# Altium integrated library Analog Devices Clock Generation and Distribution.IntLib: 120 symbols (part 12 of 18)
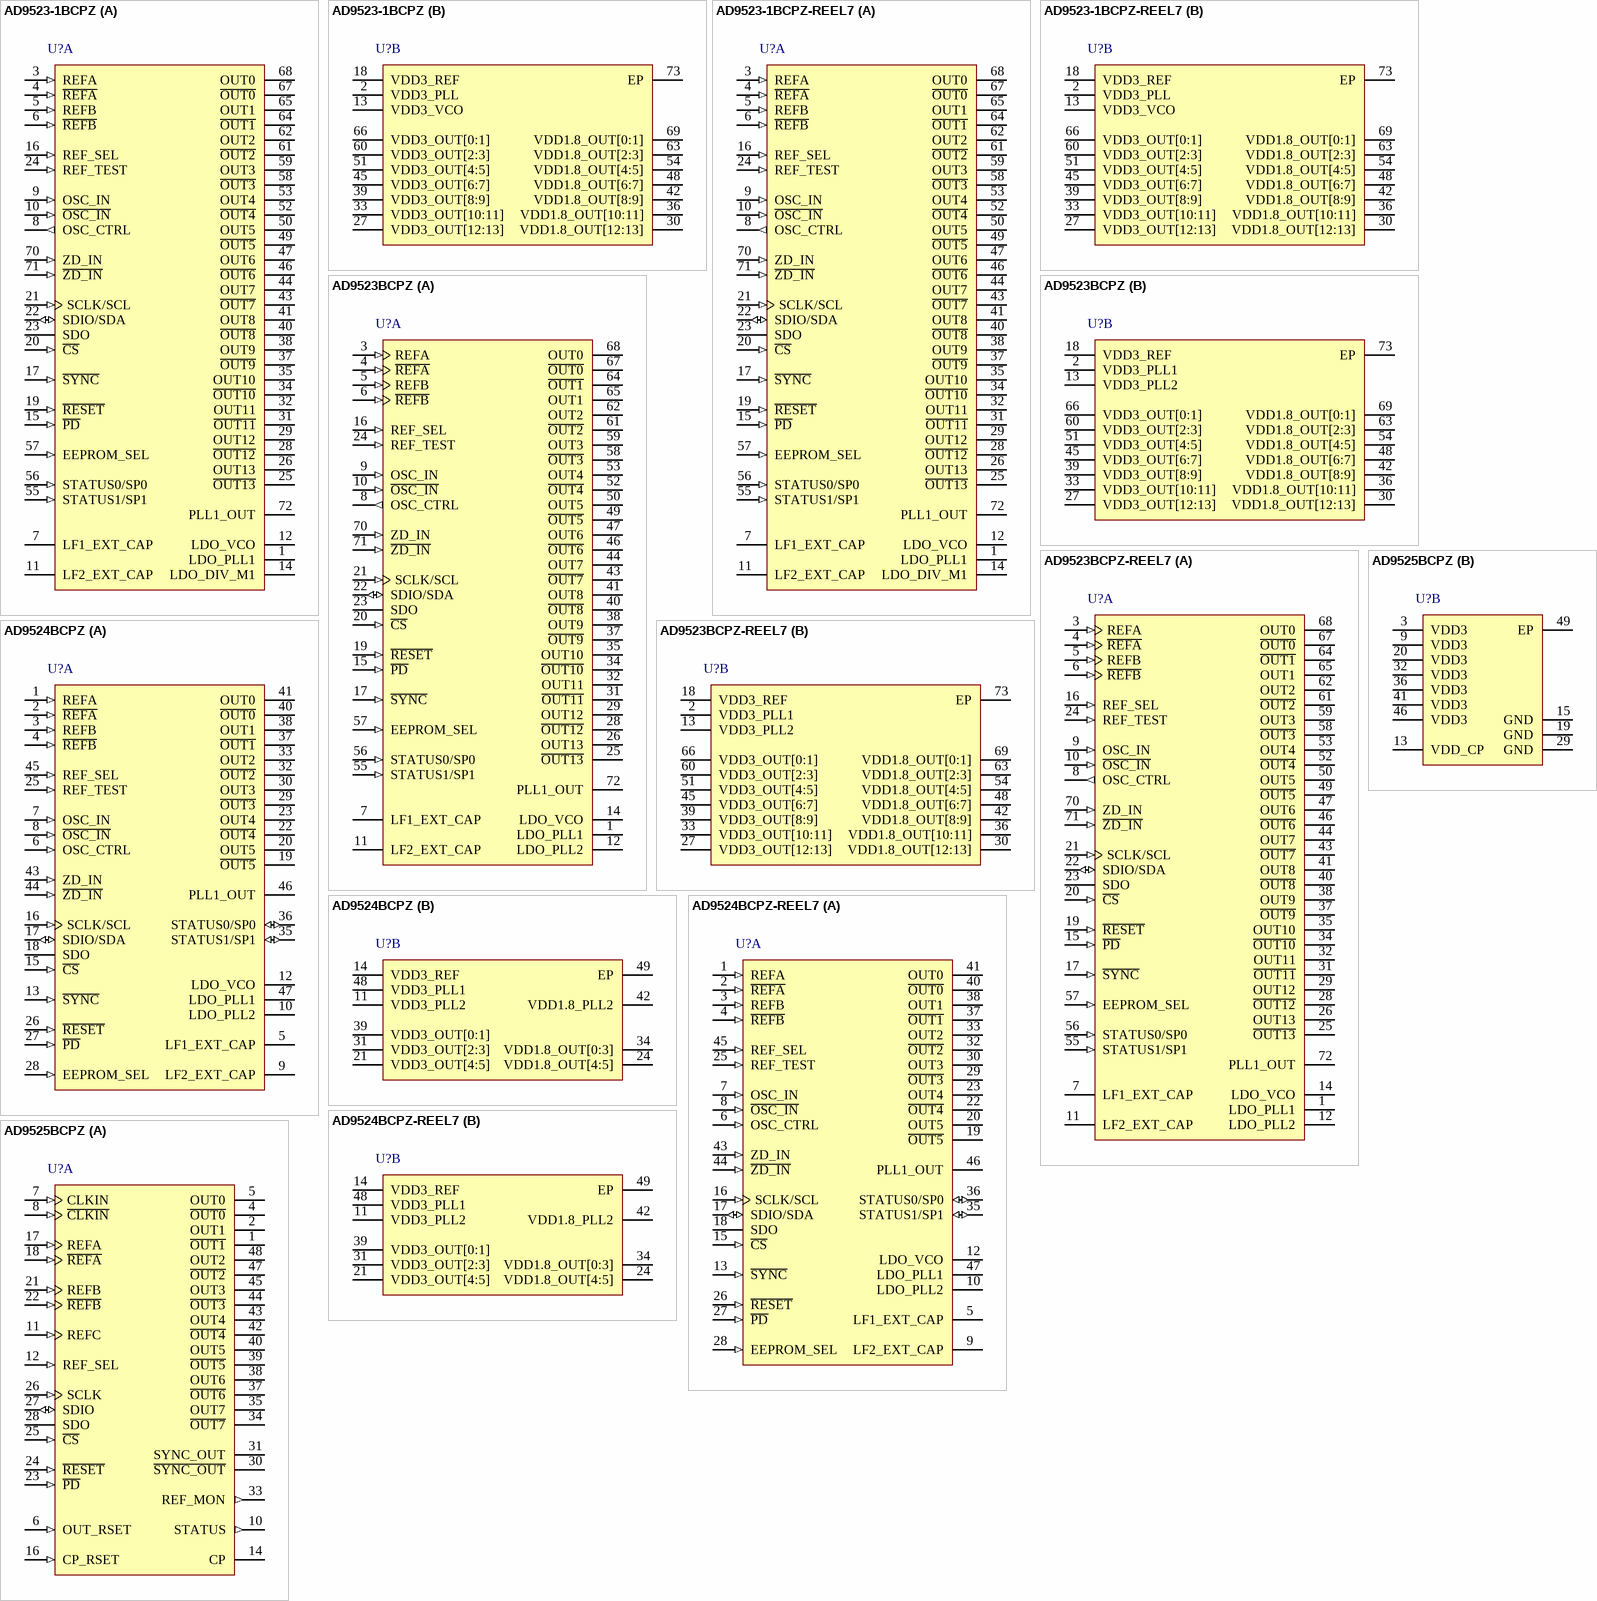
[diagram p23: symbols AD9523-1BCPZ to AD9525BCPZ]

## AD9524BCPZ-REEL7
designator U?
6 Differential / 13 LVCMOS Outputs, Dual Loop Clock Generator, 3.3 V Supply, Industrial, 48-pin QFN (CP-48-1), Reel; Manufacturer: Analog Devices; PartNumber: AD9524BCPZ-REEL7; # of Inputs: 1; # of Outputs: 13; Supply Voltage (V): 3.3; I/O Interface: Serial; Max f-out: 1 GHz; On-Chip VCO or DCO: Yes; Output Logic: LVCMOS, HSTL, LVDS, LVPECL; DatasheetVersion: Rev. C; PackageReference: CP-48-1; PackageDescription: 48-Pin Lead Frame Chip Scale Package, Body 7 x 7 mm, Pitch 0.5 mm; Supplier 1: Digi-Key; Supplier Part Number 1: AD9524BCPZ-REEL7TR-ND; Supplier 2: Digi-Key; Supplier Part Number 2: AD9524BCPZ-REEL7CT-ND; Supplier 3: Digi-Key; Supplier Part Number 3: AD9524BCPZ-REEL7DKR-ND; Supplier 4: Newark; Supplier Part Number 4: 79R2356; Supplier 5: Mouser; Supplier Part Number 5: 584-AD9524BCPZ-R7; Packing: Reel; Mounting Technology: Surface Mount; Code_JEDEC: MO-220-VKKD-2; ComponentLink1Description: Manufacturer URL; ComponentLink1URL: http://www.analog.com/en/index.html; ComponentLink2Description: Datasheet; ComponentLink2URL: http://www.analog.com/static/imported-files/data_sheets/AD9524.pdf; ComponentLink3Description: Package Specification; ComponentLink3URL: http:/www.analog.com/static/imported-files/packages/PKG_PDF/LFCSP(CP)/CP-48/CP_48_1.pdf; ComponentLink4Description: Product URL; ComponentLink4URL: http://www.analog.com/en/clock-and-timing/clock-generation-and-distribution/ad9524/products/product.html
footprint ADI-CP-48-1_N (QFN, 48-Leads, Body 7x7mm, Pitch 0.5mm, IPC Medium Density)
footprint ADI-CP-48-1_L (QFN, 48-Leads, Body 7x7mm, Pitch 0.5mm, IPC High Density)
footprint ADI-CP-48-1_M (QFN, 48-Leads, Body 7x7mm, Pitch 0.5mm, IPC Low Density)
part A pins: 1 REFA (in) "Reference Clock Input A. Along with R\E\F\A\, this pin is the differential input for the PLL reference. Alternatively, this pin can be programmed as a single-ended 3.3 V CMOS input.", 2 ~{REFA} (in) "Complementary Reference Clock Input A. Along with REFA, this pin is the differential input for the PLL reference. Alternatively, this pin can be programmed as a single-ended 3.3V CMOS input.", 3 REFB (in) "Reference Clock Input B. Along with R\E\F\B\,this pin is the differential input for the PLL reference. Alternatively, this pin can be programmed as a single-ended 3.3 V CMOS input.", 4 ~{REFB} (in) "Complementary Reference Clock Input B. Along with REFB, this pin is the differential input for the PLL reference. Alternatively, this pin can be programmed as a single-ended 3.3 V CMOS input.", 5 LF1_EXT_CAP "PLL1 External Loop Filter Capacitor. Connect this pin to ground.", 6 OSC_CTRL (in) "Oscillator Control Voltage. Connect to the voltage control pin of the external oscillator.", 7 OSC_IN (in) "PLL1 Oscillator Input. Along with O\S\C\_\I\N\, this pin is the differential input for the PLL reference. Alternatively, this pin can be programmed as a single-ended 3.3 V CMOS input.", 8 ~{OSC_IN} (in) "Complementary PLL1 Oscillator Input. Along with OSC_IN, this pin is the differential input for the PLL reference. Alternatively, this pin can be programmed as a single-ended 3.3 V CMOS input.", 9 LF2_EXT_CAP "PLL2 External Loop Filter Capacitor. Connect this pin to the LDO_VCO pin.", 10 LDO_PLL2 "LDO Decoupling Pin for PLL2 1.8 V Internal Regulator. Connect a 0.47 uF decoupling capacitor from this pin to ground. Note that for best performance, the LDO bypass capacitor must be placed in close proximity to the device.", 12 LDO_VCO "2.5 V LDO Internal Regulator Decoupling Pin for VCO. Connect a 0.47 uF decoupling capacitor from this pin to ground. Note that, for best performance, the LDO bypass capacitor must be placed in close proximity to the device.", 13 ~{SYNC} (in) "Manual Synchronization. This pin initiates a manual synchronization and has an internal 40 k ohm pull-up resistor", 15 ~{CS} (in) "Serial Control Port Chip Select, Active Low. This pin has an internal 40 k ohm pull-up resistor.", 16 SCLK/SCL (in) "Serial Control Port Clock Signal for SPI Mode (SCLK) or I2C Mode (SCL). Data clock for serial programming. This pin has an internal 40 k ohm pull-down resistor in SPI mode but is high impedance in I2C mode.", 17 SDIO/SDA (io) "Serial Control Port Bidirectional Serial Data In/Out for SPI Mode (SDIO) or I2C Mode (SDA).", 18 SDO (hiz) "Serial Data Output. Use this pin to read data in 4-wire mode (high impedance in 3-wire mode). There is no internal pull-up/pull-down resistor on this pin.", 19 ~{OUT5} (hiz) "Complementary Clock Output 5. This pin can be configured as one side of a differential LVPECL/ LVDS/HSTL output or as a single-ended CMOS output.", 20 OUT5 (hiz) "Clock Output 5. This pin can be configured as one side of a differential LVPECL/LVDS/HSTL output or as a single-ended CMOS output.", 22 ~{OUT4} (hiz) "Complementary Clock Output 4. This pin can be configured as one side of a differential LVPECL/ LVDS/HSTL output or as a single-ended CMOS output.", 23 OUT4 (hiz) "Clock Output 4. This pin can be configured as one side of a differential LVPECL/LVDS/HSTL output or as a single-ended CMOS output.", 25 REF_TEST (in) "Test Input to PLL1 Phase Detector.", 26 ~{RESET} (in) "Digital Input, Active Low. Resets internal logic to default states. This pin has an internal 40 k ohm pull-up resistor.", 27 ~{PD} (in) "Chip Power-Down, Active Low. This pin has an internal 40 k ohm pull-up resistor.", 28 EEPROM_SEL (in) "EEPROM Select. Setting this pin high selects the register values stored in the internal EEPROM to be loaded at reset and/or power-up. Setting this pin low causes the AD9524 to load the hard- coded default register values at (See Datasheet)", 29 ~{OUT3} (hiz) "Complementary Clock Output 3. This pin can be configured as one side of a differential LVPECL/ LVDS/HSTL output or as a single-ended CMOS output.", 30 OUT3 (hiz) "Square Wave Clocking Output 3. This pin can be configured as one side of a differential LVPECL/ LVDS/HSTL output or as a single-ended CMOS output.", 32 ~{OUT2} (hiz) "Complementary Clock Output 2. This pin can be configured as one side of a differential LVPECL/ LVDS/HSTL output or as a single-ended CMOS output.", 33 OUT2 (hiz) "Clock Output 2. This pin can be configured as one side of a differential LVPECL/LVDS/HSTL output or as a single-ended CMOS output.", 35 STATUS1/SP1 (io) "Lock Detect and Other Status Signals (STATUS1)/I2C Address (SP1).", 36 STATUS0/SP0 (io) "Lock Detect and Other Status Signals (STATUS0)/I2C Address (SP0).", 37 ~{OUT1} (hiz) "Complementary Clock Output 1. This pin can be configured as one side of a differential LVPECL/ LVDS/HSTL output or as a single-ended CMOS output.", 38 OUT1 (hiz) "Clock Output 1. This pin can be configured as one side of a differential LVPECL/LVDS/HSTL output or as a single-ended CMOS output.", 40 ~{OUT0} (hiz) "Complementary Clock Output 0. This pin can be configured as one side of a differential LVPECL/ LVDS/HSTL output or as a single-ended CMOS output.", 41 OUT0 (hiz) "Clock Output 0. This pin can be configured as one side of a differential LVPECL/LVDS/HSTL output or as a single-ended CMOS output.", 43 ZD_IN (in) "External Zero Delay Clock Input. Along with Z\D\_\I\N\, this pin is the differential input for the PLL reference. Alternatively, this pin can be programmed as a single-ended 3.3 V CMOS input.", 44 ~{ZD_IN} (in) "Complementary External Zero Delay Clock Input. Along with ZD_IN, this pin is the differential input for the PLL reference. Alternatively, this pin can be programmed as a single-ended 3.3 V CMOS input.", 45 REF_SEL (in) "Reference Input Select. This pin has an internal 40 k ohm pull-down resistor.", 46 PLL1_OUT (hiz) "Single-Ended CMOS Output from PLL1. This pin has settings for weak and strong in Register 0x1BA, Bit 4 (see Table 51).", 47 LDO_PLL1 "1.8 V Internal LDO Regulator Decoupling Pin for PLL1. Connect a 0.47 uF decoupling capacitor from this pin to ground. Note that, for best performance, the LDO bypass capacitor must be placed in close proximity to the device."
part B pins: 11 VDD3_PLL2 (power) "3.3 V Supply for PLL2.", 14 VDD3_REF (power) "3.3 V Supply for Output Clock Drivers Reference.", 21 VDD3_OUT[4:5] (power) "3.3 V Supply for Output 4 and Output 5 Clock Drivers.", 24 VDD1.8_OUT[4:5] (power) "1.8 V Supply for Output 4 and Output 5 Clock Dividers.", 31 VDD3_OUT[2:3] (power) "3.3 V Supply Output 2 and Supply Output 3 Clock Drivers.", 34 VDD1.8_OUT[0:3] (power) "1.8 V Supply for Output 0, Output 1, Output 2, and Output 3 Clock Dividers.", 39 VDD3_OUT[0:1] (power) "3.3 V Supply Output 0 and Supply Output 1 Clock Drivers.", 42 VDD1.8_PLL2 (power) "1.8 V Supply for PLL2.", 48 VDD3_PLL1 (power) "3.3 V Supply PLL1. Use the same supply as VCXO.", 49 EP (power) "Exposed Paddle. The exposed paddle is the ground connection on the chip. It must be soldered to the analog ground of the PCB to ensure proper functionality and heat dissipation, noise, and mechanical strength benefits."

## AD9525BCPZ
designator U?
8 LVPECL Outputs, Low Jitter Clock Generator, 3.3 V Supply, Industrial, 48-pin QFN (CP-48-4), Tray; Manufacturer: Analog Devices; PartNumber: AD9525BCPZ; # of Inputs: 2; # of Outputs: 8; Supply Voltage (V): 3.3; I/O Interface: Serial; Max f-out: 3.6 GHz; Output Logic: CMOS, LVPECL; DatasheetVersion: Rev. 0; PackageVersion: 031808-A, 03/2008; PackageReference: CP-48-4; PackageDescription: 48-Pin Lead Frame Chip Scale Package, Body 7 x 7 mm, Pitch 0.5 mm; Supplier 1: Digi-Key; Supplier Part Number 1: AD9525BCPZ-ND; Supplier 2: Farnell; Supplier Part Number 2: 2254973; Supplier 3: Newark; Supplier Part Number 3: 47W4459; Supplier 4: Mouser; Supplier Part Number 4: 584-AD9525BCPZ; Packing: Tray; Mounting Technology: Surface Mount; ComponentLink1Description: Manufacturer URL; ComponentLink1URL: http://www.analog.com/en/index.html; ComponentLink2Description: Datasheet; ComponentLink2URL: http://www.analog.com/static/imported-files/data_sheets/AD9525.pdf; ComponentLink3Description: Package Specification; ComponentLink3URL: http:/www.analog.com/static/imported-files/packages/PKG_PDF/LFCSP(CP)/CP_48_4.pdf; ComponentLink4Description: Product URL; ComponentLink4URL: http://www.analog.com/en/clock-and-timing/clock-generation-and-distribution/ad9525/products/product.html
footprint ADI-CP-48-4_N (QFN, 48-Leads, Body 7x7mm, Pitch 0.5mm, Thermal Pad 5.1x5.1mm, IPC Medium Density)
footprint ADI-CP-48-4_L (QFN, 48-Leads, Body 7x7mm, Pitch 0.5mm, Thermal Pad 5.1x5.1mm, IPC High Density)
footprint ADI-CP-48-4_M (QFN, 48-Leads, Body 7x7mm, Pitch 0.5mm, Thermal Pad 5.1x5.1mm, IPC Low Density)
part A pins: 1 ~{OUT1} (hiz) "LVPECL Complementary Output 1.", 2 OUT1 (hiz) "LVPECL Output 1.", 4 ~{OUT0} (hiz) "LVPECL Complementary Output 0.", 5 OUT0 (hiz) "LVPECL Output 0.", 6 OUT_RSET (in) "Clock Distribution Current Set Resistor. Connect a 4.12 k ohm resistor from this pin to GND.", 7 CLKIN (in) "Along with C\L\K\I\N\, this pin is the differential input for the clock distribution section.", 8 ~{CLKIN} (in) "Along with CLKIN, this pin is the differential input for the clock distribution section. If a single-ended input is connected to the CLKIN pin, connect a 0.1 uF bypass capacitor from C\L\K\I\N\ to ground.", 10 STATUS (out) "Lock Detect and Other Status Signals.", 11 REFC (in) "Reference Clock Input C. This pin is a CMOS input for the PLL reference.", 12 REF_SEL (in) "Reference Input Select. Logic high = REFB. No internal pull-up or pull-down resistor on this pin.", 14 CP (hiz) "Charge Pump (Output). This pin connects to an external loop filter. This pin can be left unconnected if the PLL is not used.", 16 CP_RSET (in) "Charge Pump Current Set Resistor. Connect a 5.1 k ohm resistor from this pin to GND. This resistor can be omitted if the PLL is not used.", 17 REFA (in) "Reference Clock Input A. Along with R\E\F\A\, this pin is the differential input for the PLL reference.", 18 ~{REFA} (in) "Reference Clock Input A. Along with REFA, this pin is the differential input for the PLL reference.", 21 REFB (in) "Reference Clock Input B. Along with R\E\F\B\, this pin is the differential input for the PLL reference.", 22 ~{REFB} (in) "Reference Clock Input B. Along with REFB, this pin is the differential input for the PLL reference.", 23 ~{PD} (in) "Chip Power-Down, Active Low. This pin has an internal 30 k ohm pull-up resistor.", 24 ~{RESET} (in) "Chip Reset, Active Low. This pin has an internal 30 k ohm pull-up resistor.", 25 ~{CS} (in) "Serial Control Port Chip Select; Active Low. This pin has an internal 30 k ohm pull-up resistor.", 26 SCLK (in) "Serial Control Port Clock Signal. This pin has an internal 30 k ohm pull-down resistor.", 27 SDIO (io) "Serial Control Port Bidirectional Serial Data In/Out.", 28 SDO (hiz) "Serial Control Port Unidirectional Serial Data Out.", 30 ~{SYNC_OUT} (hiz) "LVPECL Complementary Output for Programmable Sync Signal.", 31 SYNC_OUT (hiz) "LVPECL Output for Programmable Sync Signal.", 33 REF_MON (out) "Reference Monitor (Output). This pin has multiple selectable outputs.", 34 ~{OUT7} (hiz) "LVPECL Complementary Output 7.", 35 OUT7 (hiz) "LVPECL Output 7.", 37 ~{OUT6} (hiz) "LVPECL Complementary Output 6.", 38 OUT6 (hiz) "LVPECL Output 6.", 39 ~{OUT5} (hiz) "LVPECL Complementary Output 5.", 40 OUT5 (hiz) "LVPECL Output 5.", 42 ~{OUT4} (hiz) "LVPECL Complementary Output 4.", 43 OUT4 (hiz) "LVPECL Output 4.", 44 ~{OUT3} (hiz) "LVPECL Complementary Output 3.", 45 OUT3 (hiz) "LVPECL Output 3.", 47 ~{OUT2} (hiz) "LVPECL Complementary Output 2.", 48 OUT2 (hiz) "LVPECL Output 2."
part B pins: 3 VDD3 (power) "3.3 V Power Supply for Channel OUT0 and Channel OUT1.", 9 VDD3 (power) "3.3 V Power Supply for CLK Inputs, M Divider, and Output Distribution.", 13 VDD_CP (power) "Power Supply for Charge Pump (CP). VDD3 < VDD_CP < 5.0 V. VDD_CP must still be connected to 3.3 V if the PLL is not used.", 15 GND (power) "Ground for Charge Pump VDD_CP Supply. Connect to ground.", 19 GND (power) "Ground for PLL Power Supply. Connect to ground.", 20 VDD3 (power) "3.3 V Power Supply for PLL.", 29 GND (power) "Connect to ground.", 32 VDD3 (power) "Power Supply for SYNC_OUT Driver.", 36 VDD3 (power) "3.3 V Power Supply for Channel OUT6 and Channel OUT7.", 41 VDD3 (power) "3.3 V Power Supply for Channel OUT4 and Channel OUT5.", 46 VDD3 (power) "3.3 V Power Supply for Channel OUT2 and Channel OUT3.", 49 EP (power) "Exposed Paddle. The exposed pad is a ground connection on the chip that must be soldered to the analog ground of the PCB to ensure proper functionality and heat dissipation, noise, and mechanical strength benefits."

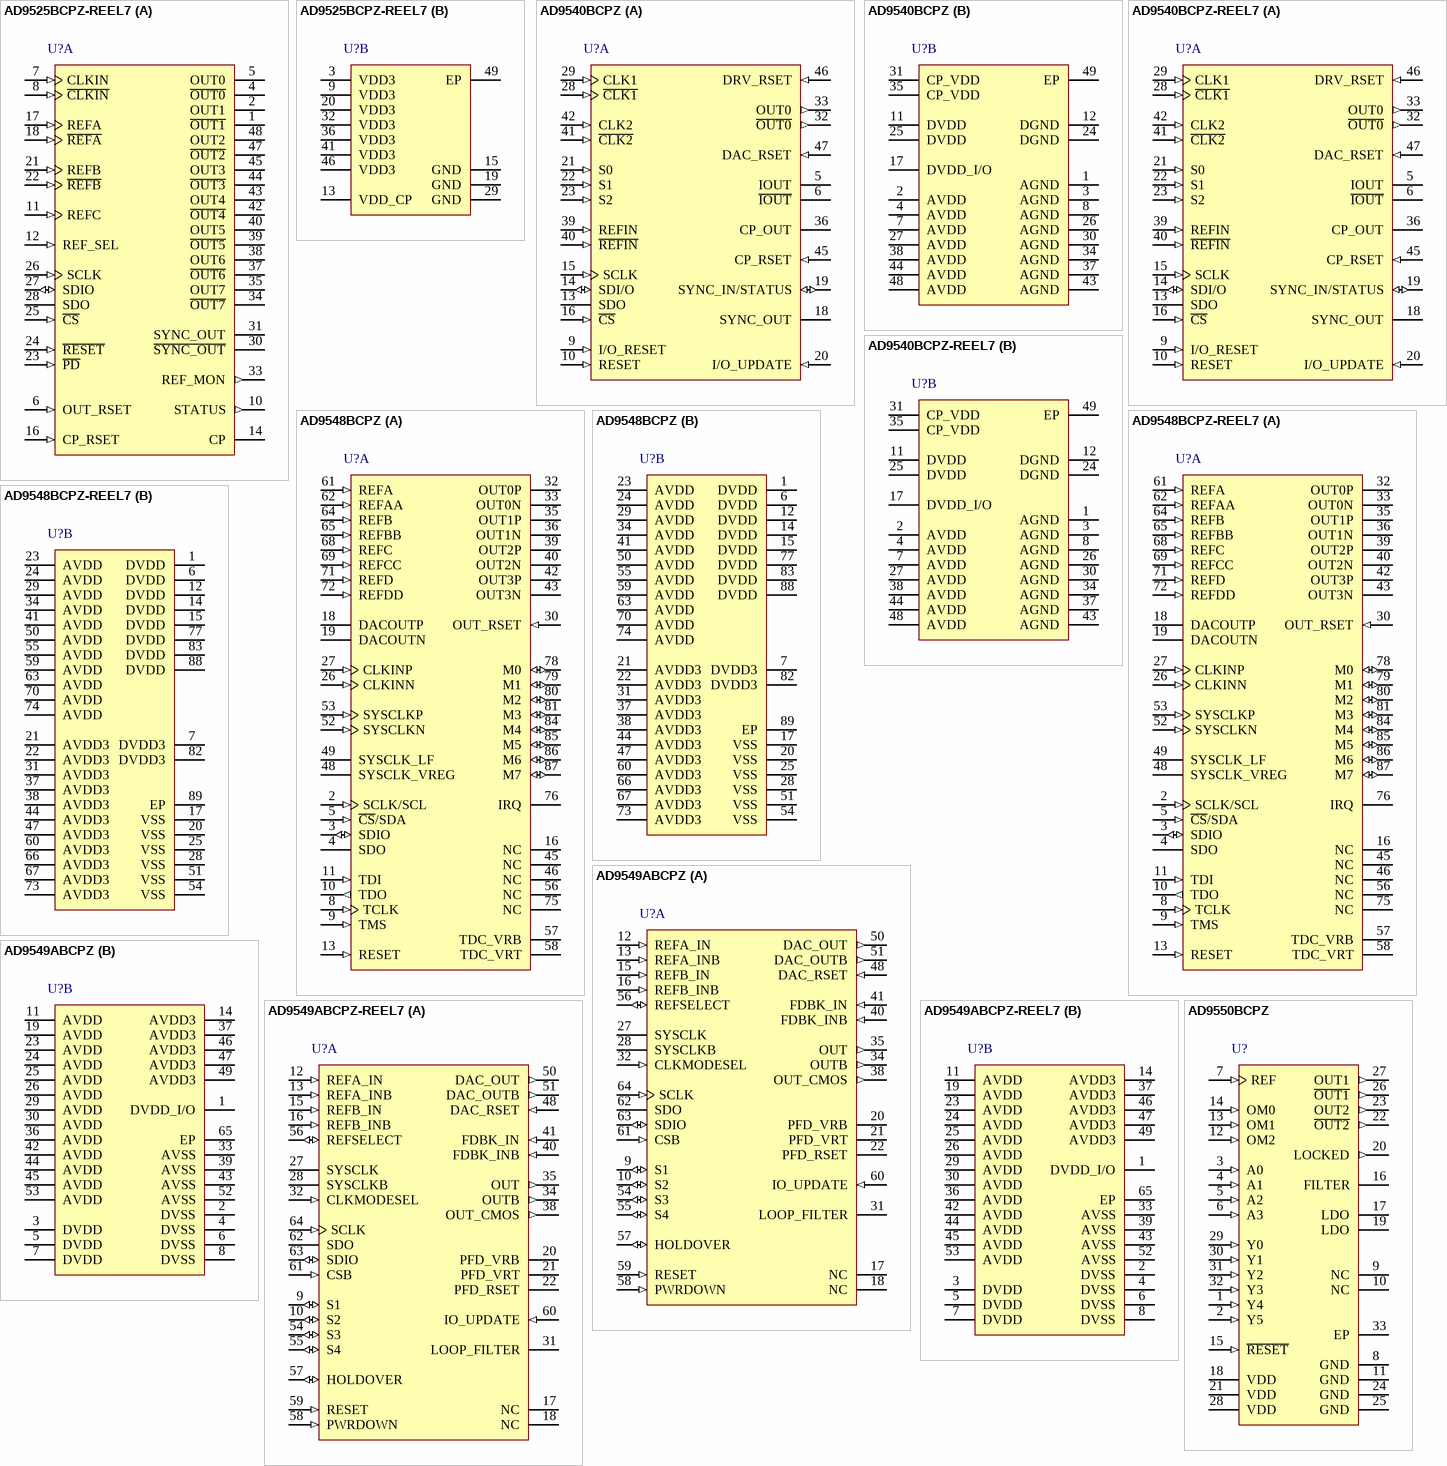
[diagram p8: symbols AD9525BCPZ-REEL7 to AD9550BCPZ]

## AD9525BCPZ-REEL7
designator U?
8 LVPECL Outputs, Low Jitter Clock Generator, 3.3 V Supply, Industrial, 48-pin QFN (CP-48-4), Reel; Manufacturer: Analog Devices; PartNumber: AD9525BCPZ-REEL7; # of Inputs: 2; # of Outputs: 8; Supply Voltage (V): 3.3; I/O Interface: Serial; Max f-out: 3.6 GHz; Output Logic: CMOS, LVPECL; DatasheetVersion: Rev. 0; PackageVersion: 031808-A, 03/2008; PackageReference: CP-48-4; PackageDescription: 48-Pin Lead Frame Chip Scale Package, Body 7 x 7 mm, Pitch 0.5 mm; Supplier 1: Digi-Key; Supplier Part Number 1: AD9525BCPZ-REEL7-ND; Supplier 2: Mouser; Supplier Part Number 2: 584-AD9525BCPZ-R7; Packing: Reel; Mounting Technology: Surface Mount; ComponentLink1Description: Manufacturer URL; ComponentLink1URL: http://www.analog.com/en/index.html; ComponentLink2Description: Datasheet; ComponentLink2URL: http://www.analog.com/static/imported-files/data_sheets/AD9525.pdf; ComponentLink3Description: Package Specification; ComponentLink3URL: http:/www.analog.com/static/imported-files/packages/PKG_PDF/LFCSP(CP)/CP_48_4.pdf; ComponentLink4Description: Product URL; ComponentLink4URL: http://www.analog.com/en/clock-and-timing/clock-generation-and-distribution/ad9525/products/product.html
footprint ADI-CP-48-4_N (QFN, 48-Leads, Body 7x7mm, Pitch 0.5mm, Thermal Pad 5.1x5.1mm, IPC Medium Density)
footprint ADI-CP-48-4_L (QFN, 48-Leads, Body 7x7mm, Pitch 0.5mm, Thermal Pad 5.1x5.1mm, IPC High Density)
footprint ADI-CP-48-4_M (QFN, 48-Leads, Body 7x7mm, Pitch 0.5mm, Thermal Pad 5.1x5.1mm, IPC Low Density)
part A pins: 1 ~{OUT1} (hiz) "LVPECL Complementary Output 1.", 2 OUT1 (hiz) "LVPECL Output 1.", 4 ~{OUT0} (hiz) "LVPECL Complementary Output 0.", 5 OUT0 (hiz) "LVPECL Output 0.", 6 OUT_RSET (in) "Clock Distribution Current Set Resistor. Connect a 4.12 k ohm resistor from this pin to GND.", 7 CLKIN (in) "Along with C\L\K\I\N\, this pin is the differential input for the clock distribution section.", 8 ~{CLKIN} (in) "Along with CLKIN, this pin is the differential input for the clock distribution section. If a single-ended input is connected to the CLKIN pin, connect a 0.1 uF bypass capacitor from C\L\K\I\N\ to ground.", 10 STATUS (out) "Lock Detect and Other Status Signals.", 11 REFC (in) "Reference Clock Input C. This pin is a CMOS input for the PLL reference.", 12 REF_SEL (in) "Reference Input Select. Logic high = REFB. No internal pull-up or pull-down resistor on this pin.", 14 CP (hiz) "Charge Pump (Output). This pin connects to an external loop filter. This pin can be left unconnected if the PLL is not used.", 16 CP_RSET (in) "Charge Pump Current Set Resistor. Connect a 5.1 k ohm resistor from this pin to GND. This resistor can be omitted if the PLL is not used.", 17 REFA (in) "Reference Clock Input A. Along with R\E\F\A\, this pin is the differential input for the PLL reference.", 18 ~{REFA} (in) "Reference Clock Input A. Along with REFA, this pin is the differential input for the PLL reference.", 21 REFB (in) "Reference Clock Input B. Along with R\E\F\B\, this pin is the differential input for the PLL reference.", 22 ~{REFB} (in) "Reference Clock Input B. Along with REFB, this pin is the differential input for the PLL reference.", 23 ~{PD} (in) "Chip Power-Down, Active Low. This pin has an internal 30 k ohm pull-up resistor.", 24 ~{RESET} (in) "Chip Reset, Active Low. This pin has an internal 30 k ohm pull-up resistor.", 25 ~{CS} (in) "Serial Control Port Chip Select; Active Low. This pin has an internal 30 k ohm pull-up resistor.", 26 SCLK (in) "Serial Control Port Clock Signal. This pin has an internal 30 k ohm pull-down resistor.", 27 SDIO (io) "Serial Control Port Bidirectional Serial Data In/Out.", 28 SDO (hiz) "Serial Control Port Unidirectional Serial Data Out.", 30 ~{SYNC_OUT} (hiz) "LVPECL Complementary Output for Programmable Sync Signal.", 31 SYNC_OUT (hiz) "LVPECL Output for Programmable Sync Signal.", 33 REF_MON (out) "Reference Monitor (Output). This pin has multiple selectable outputs.", 34 ~{OUT7} (hiz) "LVPECL Complementary Output 7.", 35 OUT7 (hiz) "LVPECL Output 7.", 37 ~{OUT6} (hiz) "LVPECL Complementary Output 6.", 38 OUT6 (hiz) "LVPECL Output 6.", 39 ~{OUT5} (hiz) "LVPECL Complementary Output 5.", 40 OUT5 (hiz) "LVPECL Output 5.", 42 ~{OUT4} (hiz) "LVPECL Complementary Output 4.", 43 OUT4 (hiz) "LVPECL Output 4.", 44 ~{OUT3} (hiz) "LVPECL Complementary Output 3.", 45 OUT3 (hiz) "LVPECL Output 3.", 47 ~{OUT2} (hiz) "LVPECL Complementary Output 2.", 48 OUT2 (hiz) "LVPECL Output 2."
part B pins: 3 VDD3 (power) "3.3 V Power Supply for Channel OUT0 and Channel OUT1.", 9 VDD3 (power) "3.3 V Power Supply for CLK Inputs, M Divider, and Output Distribution.", 13 VDD_CP (power) "Power Supply for Charge Pump (CP). VDD3 < VDD_CP < 5.0 V. VDD_CP must still be connected to 3.3 V if the PLL is not used.", 15 GND (power) "Ground for Charge Pump VDD_CP Supply. Connect to ground.", 19 GND (power) "Ground for PLL Power Supply. Connect to ground.", 20 VDD3 (power) "3.3 V Power Supply for PLL.", 29 GND (power) "Connect to ground.", 32 VDD3 (power) "Power Supply for SYNC_OUT Driver.", 36 VDD3 (power) "3.3 V Power Supply for Channel OUT6 and Channel OUT7.", 41 VDD3 (power) "3.3 V Power Supply for Channel OUT4 and Channel OUT5.", 46 VDD3 (power) "3.3 V Power Supply for Channel OUT2 and Channel OUT3.", 49 EP (power) "Exposed Paddle. The exposed pad is a ground connection on the chip that must be soldered to the analog ground of the PCB to ensure proper functionality and heat dissipation, noise, and mechanical strength benefits."

## AD9540BCPZ
designator U?
Low Jitter, DDS-based Clock Generator and Synthesizer, 3.3 V Supply, Industrial, 48-pin QFN (CP-48-1), Tray; Manufacturer: Analog Devices; PartNumber: AD9540BCPZ; # of Inputs: 2; # of Outputs: 1; Supply Voltage (V): 3.3; I/O Interface: Serial; Max f-out: 655 MHz; On-Chip VCO or DCO: No; Output Logic: CML; DatasheetVersion: Rev. A; PackageReference: CP-48-1; PackageDescription: 48-Pin Lead Frame Chip Scale Package, Body 7 x 7 mm, Pitch 0.5 mm; Supplier 1: Digi-Key; Supplier Part Number 1: AD9540BCPZ-ND; Supplier 2: Mouser; Supplier Part Number 2: 584-AD9540BCPZ; Packing: Tray; Mounting Technology: Surface Mount; Code_JEDEC: MO-220-VKKD-2; ComponentLink1Description: Manufacturer URL; ComponentLink1URL: http://www.analog.com/en/index.html; ComponentLink2Description: Datasheet; ComponentLink2URL: http://www.analog.com/static/imported-files/data_sheets/AD9540.pdf; ComponentLink3Description: Package Specification; ComponentLink3URL: http:/www.analog.com/static/imported-files/packages/PKG_PDF/LFCSP(CP)/CP-48/CP_48_1.pdf; ComponentLink4Description: Product URL; ComponentLink4URL: http://www.analog.com/en/clock-and-timing/clock-generation-and-distribution/ad9540/products/product.html
footprint ADI-CP-48-1_N (QFN, 48-Leads, Body 7x7mm, Pitch 0.5mm, IPC Medium Density)
footprint ADI-CP-48-1_L (QFN, 48-Leads, Body 7x7mm, Pitch 0.5mm, IPC High Density)
footprint ADI-CP-48-1_M (QFN, 48-Leads, Body 7x7mm, Pitch 0.5mm, IPC Low Density)
part A pins: 5 IOUT (hiz) "DAC Analog Output.", 6 ~{IOUT} (hiz) "DAC Analog Complementary Output.", 9 I/O_RESET (in) "Resets the serial port when synchronization is lost in communications but does not reset the device itself (active high). When not being used, this pin should be forced low, because it floats to the threshold value.", 10 RESET (in) "Master Reset. Clears all accumulators and returns all registers to their default values (active high).", 13 SDO (hiz) "Serial Data Output. Used only when the device is programmed for 3-wire serial data mode.", 14 SDI/O (io) "Serial Data Input/Output. When the part is programmed for 3-wire serial data mode, this is input only; in 2-wire mode, it serves as both the input and output.", 15 SCLK (in) "Serial Data Clock. Provides the clock signal for the serial data port.", 16 ~{CS} (in) "Active Low Signal That Enables Shared Serial Buses. When brought high, the serial port ignores the serial data clocks.", 18 SYNC_OUT (hiz) "Synchronization Clock Output.", 19 SYNC_IN/STATUS (io) "Bidirectional Dual Function Pin. Depending on device programming, this pin is either the direct digital synthesizer’s (DDS) synchronization input (allows alignment of multiple subclocks), or the PLL lock detect output signal.", 20 I/O_UPDATE (in) "This input pin, when set high, transfers the data from the I/O buffers to the internal registers on the rising edge of the internal SYNC_CLK, which can be observed on SYNC_OUT.", 21 S0 (in) "Clock Frequency and Delay Select Pins. These pins specify one of eight clock frequency/delay profiles.", 22 S1 (in) "Clock Frequency and Delay Select Pins. These pins specify one of eight clock frequency/delay profiles.", 23 S2 (in) "Clock Frequency and Delay Select Pins. These pins specify one of eight clock frequency/delay profiles.", 28 ~{CLK1} (in) "RF Divider and Internal Clock Complementary Input.", 29 CLK1 (in) "RF Divider and Internal Clock Input.", 32 ~{OUT0} (out) "CML Driver Complementary Output.", 33 OUT0 (out) "CML Driver Output.", 36 CP_OUT (power) "Charge Pump Output.", 39 REFIN (in) "Phase Frequency Detector Reference Input.", 40 ~{REFIN} (in) "Phase Frequency Detector Reference Complementary Input.", 41 ~{CLK2} (in) "Phase Frequency Detector Oscillator (Feedback) Complementary Input.", 42 CLK2 (in) "Phase Frequency Detector Oscillator (Feedback) Input.", 45 CP_RSET (in) "Charge Pump Current Set. Program charge pump current with a resistor to AGND.", 46 DRV_RSET (in) "CML Driver Output Current Set. Program CML output current with a resistor to AGND.", 47 DAC_RSET (in) "DAC Output Current Set. Program DAC output current with a resistor to AGND."
part B pins: 1 AGND (power) "Analog Ground.", 2 AVDD (power) "Analog Core Supply (1.8 V).", 3 AGND (power) "Analog Ground.", 4 AVDD (power) "Analog Core Supply (1.8 V).", 7 AVDD (power) "Analog Core Supply (1.8 V).", 8 AGND (power) "Analog Ground.", 11 DVDD (power) "Digital Core Supply (1.8 V).", 12 DGND (power) "Digital Ground.", 17 DVDD_I/O (power) "Digital Interface Supply (3.3 V).", 24 DGND (power) "Digital Ground.", 25 DVDD (power) "Digital Core Supply (1.8 V).", 26 AGND (power) "Analog Ground.", 27 AVDD (power) "Analog Core Supply (1.8 V).", 30 AGND (power) "Analog Ground.", 31 CP_VDD (power) "Charge Pump and CML Driver Supply Pin. 3.3 V analog (clean) supply.", 34 AGND (power) "Analog Ground.", 35 CP_VDD (power) "Charge Pump and CML Driver Supply Pin. 3.3 V analog (clean) supply.", 37 AGND (power) "Analog Ground.", 38 AVDD (power) "Analog Core Supply (1.8 V).", 43 AGND (power) "Analog Ground.", 44 AVDD (power) "Analog Core Supply (1.8 V).", 48 AVDD (power) "Analog Core Supply (1.8 V).", 49 EP (power) "The exposed paddle on this package is an electrical connection as well as a thermal enhancement. In order for the device to function properly, the paddle must be attached to analog ground."

## AD9540BCPZ-REEL7
designator U?
Low Jitter, DDS-based Clock Generator and Synthesizer, 3.3 V Supply, Industrial, 48-pin QFN (CP-48-1), Reel; Manufacturer: Analog Devices; PartNumber: AD9540BCPZ-REEL7; # of Inputs: 2; # of Outputs: 1; Supply Voltage (V): 3.3; I/O Interface: Serial; Max f-out: 655 MHz; On-Chip VCO or DCO: No; Output Logic: CML; DatasheetVersion: Rev. A; PackageReference: CP-48-1; PackageDescription: 48-Pin Lead Frame Chip Scale Package, Body 7 x 7 mm, Pitch 0.5 mm; Supplier 1: Digi-Key; Supplier Part Number 1: AD9540BCPZ-REEL7-ND; Supplier 2: Mouser; Supplier Part Number 2: 584-AD9540BCPZ-R7; Packing: Reel; Mounting Technology: Surface Mount; Code_JEDEC: MO-220-VKKD-2; ComponentLink1Description: Manufacturer URL; ComponentLink1URL: http://www.analog.com/en/index.html; ComponentLink2Description: Datasheet; ComponentLink2URL: http://www.analog.com/static/imported-files/data_sheets/AD9540.pdf; ComponentLink3Description: Package Specification; ComponentLink3URL: http:/www.analog.com/static/imported-files/packages/PKG_PDF/LFCSP(CP)/CP-48/CP_48_1.pdf; ComponentLink4Description: Product URL; ComponentLink4URL: http://www.analog.com/en/clock-and-timing/clock-generation-and-distribution/ad9540/products/product.html
footprint ADI-CP-48-1_N (QFN, 48-Leads, Body 7x7mm, Pitch 0.5mm, IPC Medium Density)
footprint ADI-CP-48-1_L (QFN, 48-Leads, Body 7x7mm, Pitch 0.5mm, IPC High Density)
footprint ADI-CP-48-1_M (QFN, 48-Leads, Body 7x7mm, Pitch 0.5mm, IPC Low Density)
part A pins: 5 IOUT (hiz) "DAC Analog Output.", 6 ~{IOUT} (hiz) "DAC Analog Complementary Output.", 9 I/O_RESET (in) "Resets the serial port when synchronization is lost in communications but does not reset the device itself (active high). When not being used, this pin should be forced low, because it floats to the threshold value.", 10 RESET (in) "Master Reset. Clears all accumulators and returns all registers to their default values (active high).", 13 SDO (hiz) "Serial Data Output. Used only when the device is programmed for 3-wire serial data mode.", 14 SDI/O (io) "Serial Data Input/Output. When the part is programmed for 3-wire serial data mode, this is input only; in 2-wire mode, it serves as both the input and output.", 15 SCLK (in) "Serial Data Clock. Provides the clock signal for the serial data port.", 16 ~{CS} (in) "Active Low Signal That Enables Shared Serial Buses. When brought high, the serial port ignores the serial data clocks.", 18 SYNC_OUT (hiz) "Synchronization Clock Output.", 19 SYNC_IN/STATUS (io) "Bidirectional Dual Function Pin. Depending on device programming, this pin is either the direct digital synthesizer’s (DDS) synchronization input (allows alignment of multiple subclocks), or the PLL lock detect output signal.", 20 I/O_UPDATE (in) "This input pin, when set high, transfers the data from the I/O buffers to the internal registers on the rising edge of the internal SYNC_CLK, which can be observed on SYNC_OUT.", 21 S0 (in) "Clock Frequency and Delay Select Pins. These pins specify one of eight clock frequency/delay profiles.", 22 S1 (in) "Clock Frequency and Delay Select Pins. These pins specify one of eight clock frequency/delay profiles.", 23 S2 (in) "Clock Frequency and Delay Select Pins. These pins specify one of eight clock frequency/delay profiles.", 28 ~{CLK1} (in) "RF Divider and Internal Clock Complementary Input.", 29 CLK1 (in) "RF Divider and Internal Clock Input.", 32 ~{OUT0} (out) "CML Driver Complementary Output.", 33 OUT0 (out) "CML Driver Output.", 36 CP_OUT (power) "Charge Pump Output.", 39 REFIN (in) "Phase Frequency Detector Reference Input.", 40 ~{REFIN} (in) "Phase Frequency Detector Reference Complementary Input.", 41 ~{CLK2} (in) "Phase Frequency Detector Oscillator (Feedback) Complementary Input.", 42 CLK2 (in) "Phase Frequency Detector Oscillator (Feedback) Input.", 45 CP_RSET (in) "Charge Pump Current Set. Program charge pump current with a resistor to AGND.", 46 DRV_RSET (in) "CML Driver Output Current Set. Program CML output current with a resistor to AGND.", 47 DAC_RSET (in) "DAC Output Current Set. Program DAC output current with a resistor to AGND."
part B pins: 1 AGND (power) "Analog Ground.", 2 AVDD (power) "Analog Core Supply (1.8 V).", 3 AGND (power) "Analog Ground.", 4 AVDD (power) "Analog Core Supply (1.8 V).", 7 AVDD (power) "Analog Core Supply (1.8 V).", 8 AGND (power) "Analog Ground.", 11 DVDD (power) "Digital Core Supply (1.8 V).", 12 DGND (power) "Digital Ground.", 17 DVDD_I/O (power) "Digital Interface Supply (3.3 V).", 24 DGND (power) "Digital Ground.", 25 DVDD (power) "Digital Core Supply (1.8 V).", 26 AGND (power) "Analog Ground.", 27 AVDD (power) "Analog Core Supply (1.8 V).", 30 AGND (power) "Analog Ground.", 31 CP_VDD (power) "Charge Pump and CML Driver Supply Pin. 3.3 V analog (clean) supply.", 34 AGND (power) "Analog Ground.", 35 CP_VDD (power) "Charge Pump and CML Driver Supply Pin. 3.3 V analog (clean) supply.", 37 AGND (power) "Analog Ground.", 38 AVDD (power) "Analog Core Supply (1.8 V).", 43 AGND (power) "Analog Ground.", 44 AVDD (power) "Analog Core Supply (1.8 V).", 48 AVDD (power) "Analog Core Supply (1.8 V).", 49 EP (power) "The exposed paddle on this package is an electrical connection as well as a thermal enhancement. In order for the device to function properly, the paddle must be attached to analog ground."

## AD9548BCPZ
designator U?
Quad / Octal Inputs Network Clock Generator / Synchronizer, 3.3 V Supply, Commercial, 88-pin QFN (CP-88-2), Tray; Manufacturer: Analog Devices; PartNumber: AD9548BCPZ; # of Inputs: 8; # of Outputs: 4; Supply Voltage (V): 3.3; I/O Interface: Serial; Max f-out: 450 MHz; On-Chip VCO or DCO: Yes; Output Logic: LVDS, LVPECL, CMOS; DatasheetVersion: Rev. B; PackageVersion: 092707-A, 09/2007; PackageReference: CP-88-2; PackageDescription: 88-Pin Lead Frame Chip Scale Package, Body 12 x 12 mm, Pitch 0.5 mm; Supplier 1: Digi-Key; Supplier Part Number 1: AD9548BCPZ-ND; Supplier 2: Newark; Supplier Part Number 2: 05R6604; Supplier 3: Mouser; Supplier Part Number 3: 584-AD9548BCPZ; Packing: Tray; Mounting Technology: Surface Mount; Code_JEDEC: MO-220-VRRD; ComponentLink1Description: Manufacturer URL; ComponentLink1URL: http://www.analog.com/en/index.html; ComponentLink2Description: Datasheet; ComponentLink2URL: http://www.analog.com/static/imported-files/data_sheets/AD9548.pdf; ComponentLink3Description: Package Specification; ComponentLink3URL: http:/www.analog.com/static/imported-files/packages/PKG_PDF/LFCSP(CP)/CP_88_2.pdf; ComponentLink4Description: Product URL; ComponentLink4URL: http://www.analog.com/en/clock-and-timing/clock-generation-and-distribution/ad9548/products/product.html
footprint ADI-CP-88-2_N (QFN, 88-Leads, Body 12x12mm, Pitch 0.5mm, Thermal Pad 6x6mm, IPC Medium Density)
footprint ADI-CP-88-2_L (QFN, 88-Leads, Body 12x12mm, Pitch 0.5mm, Thermal Pad 6x6mm, IPC High Density)
footprint ADI-CP-88-2_M (QFN, 88-Leads, Body 12x12mm, Pitch 0.5mm, Thermal Pad 6x6mm, IPC Low Density)
part A pins: 2 SCLK/SCL (in) "Serial Programming Clock. Data clock for serial programming.", 3 SDIO (io) "Serial Data Input/Output. When the device is in 4-wire mode, data is written via this pin. In 3-wire mode, both data reads and writes occur on this pin. There is no internal pull-up/pull-down resistor on this pin.", 4 SDO (hiz) "Serial Data Output. Use this pin to read data in 4-wire mode (high impedance in 3-wire mode). There is no internal pull-up/pull-down resistor on this pin.", 5 ~{CS}/SDA (in) "Chip Select (SPI). Active low. When programming a device, this pin must be held low. In systems where more than one AD9548 is present, this pin enables individual programming of each AD9548 (in I2C(R) mode, this is a serial (See Datasheet)", 8 TCLK (in) "JTAG Clock. Internal pull-down resistor; no connection if JTAG is not used.", 9 TMS (in) "JTAG Mode. Internal pull-up resistor; no connection if JTAG is not used.", 10 TDO (out) "JTAG Output. No connection if JTAG is not used", 11 TDI (in) "JTAG Input. Internal pull-up resistor; no connection if JTAG is not used.", 13 RESET (in) "Chip Reset. When this active high pin is asserted, the chip goes into reset. This pin has an internal 50 k ohm pull-down resistor.", 16 NC "No Connect.", 18 DACOUTP (hiz) "DAC Output. DACOUTP contains an internal 50 ohm pull-down resistor.", 19 DACOUTN (hiz) "Complementary DAC Output. DACOUTN contains an internal 50 ohm pull-down resistor.", 26 CLKINN (in) "Clock Distribution Input. In standard operating mode, this pin is connected to the filtered DACOUTN output. This internally biased input is typically ac-coupled and, when configured as such, can accept any differential (See Datasheet)", 27 CLKINP (in) "Clock Distribution Input. In standard operating mode, this pin is connected to the filtered DACOUTP output", 30 OUT_RSET (in) "Connect an optional 3.12 k ohm resistor from this pin to ground (see the Output Current Control with an External Resistor section).", 32 OUT0P (hiz) "Output 0. This output can be configured as LVPECL, LVDS, or single-ended CMOS. LVPECL and LVDS operation require a 3.3 V output driver power supply. CMOS operation can be either 1.8 V or 3.3 V, depending on the output driver (See Datasheet)", 33 OUT0N (hiz) "Complementary Output 0. This output can be configured as LVPECL, LVDS, or single-ended CMOS.", 35 OUT1P (hiz) "Output 1. This output can be configured as LVPECL, LVDS, or single-ended CMOS. LVPECL and LVDS operation require a 3.3 V output driver power supply. CMOS operation can be either 1.8 V or 3.3 V, depending on the output driver (See Datasheet)", 36 OUT1N (hiz) "Complementary Output 1. This output can be configured as LVPECL, LVDS, or single-ended CMOS.", 39 OUT2P (hiz) "Output 2. This output can be configured as LVPECL, LVDS, or single-ended CMOS. LVPECL and LVDS operation require a 3.3 V output driver power supply. CMOS operation can be either 1.8 V or 3.3 V, depending on the output driver (See Datasheet)", 40 OUT2N (hiz) "Complementary Output 2. This output can be configured as LVPECL, LVDS, or single-ended CMOS.", 42 OUT3P (hiz) "Output 3. This output can be configured as LVPECL, LVDS, or single-ended CMOS. LVPECL and LVDS operation require a 3.3 V output driver power supply. CMOS operation can be either 1.8 V or 3.3 V, depending on the output driver (See Datasheet)", 43 OUT3N (hiz) "Complementary Output 3. This output can be configured as LVPECL, LVDS, or single-ended CMOS.", 45 NC "No Connect.", 46 NC "No Connect.", 48 SYSCLK_VREG "System Clock Loop Filter Voltage Regulator. Connect a 0.1 uF capacitor from this pin to ground. This pin is also the ac ground reference for the integrated SYSCLK PLL multiplier’s external loop filter (see the SYSCLK PLL (See Datasheet)", 49 SYSCLK_LF "System Clock Multiplier Loop Filter. When using the frequency multiplier to drive the system clock, an external loop filter can be attached to this pin.", 52 SYSCLKN (in) "Complementary System Clock Input. Complementary signal to SYSCLKP. SYSCLKN contains internal dc biasing and should be ac-coupled with a 0.01 uF capacitor, except when using a crystal, in which case connect the crystal across (See Datasheet)", 53 SYSCLKP (in) "System Clock Input. SYSCLKP contains internal dc biasing and should be ac-coupled with a 0.01 uF capacitor, except when using a crystal, in which case connect the crystal across SYSCLKP and SYSCLKN. Single-ended 1.8 V CMOS (See Datasheet)", 56 NC "No Connection. These pins should be left floating.", 57 TDC_VRB "Use capacitive decoupling on these pins.", 58 TDC_VRT "Use capacitive decoupling on these pins.", 61 REFA (in) "Reference A Input. This internally biased input is typically ac-coupled and, when configured as such, can accept any differential signal with single-ended swing up to 3.3 V. If dc-coupled, input can be LVPECL, CMOS, or LVDS.", 62 REFAA (in) "Complementary Reference A Input. Complementary signal to the input provided on Pin 61. The user can configure this pin as a separate single-ended input.", 64 REFB (in) "Reference B Input. This internally biased input is typically ac-coupled and, when configured as such, can accept any differential signal with single-ended swing up to 3.3 V. If dc-coupled, input can be LVPECL, CMOS, or LVDS.", 65 REFBB (in) "Complementary Reference B Input. Complementary signal to the input provided on Pin 64. The user can configure this pin as a separate single-ended input.", 68 REFC (in) "Reference C Input. This internally biased input is typically ac-coupled and, when configured as such, can accept any differential signal with single-ended swing up to 3.3 V. If dc-coupled, input can be LVPECL, CMOS, or LVDS.", 69 REFCC (in) "Complementary Reference C Input. Complementary signal to the input provided on Pin 68. The user can configure this pin as a separate single-ended input.", 71 REFD (in) "Reference D Input. This internally biased input is typically ac-coupled and, when configured as such, can accept any differential signal with single-ended swing up to 3.3 V. If dc-coupled, input can be LVPECL, CMOS, or LVDS.", 72 REFDD (in) "Complementary Reference D Input. Complementary signal to the input provided on Pin 71. The user can configure this pin as a separate single-ended input.", 75 NC "No Connection. These pins should be left floating.", 76 IRQ (hiz) "Interrupt Request Line.", 78 M0 (io) "Configurable I/O Pins. These pins are configured under program control.", 79 M1 (io) "Configurable I/O Pins. These pins are configured under program control.", 80 M2 (io) "Configurable I/O Pins. These pins are configured under program control.", 81 M3 (io) "Configurable I/O Pins. These pins are configured under program control.", 84 M4 (io) "Configurable I/O Pins. These pins are configured under program control.", 85 M5 (io) "Configurable I/O Pins. These pins are configured under program control.", 86 M6 (io) "Configurable I/O Pins. These pins are configured under program control.", 87 M7 (io) "Configurable I/O Pins. These pins are configured under program control."
part B pins: 1 DVDD (power) "1.8 V Digital Supply.", 6 DVDD (power) "1.8 V Digital Supply.", 7 DVDD3 (power) "3.3 V I/O Digital Supply.", 12 DVDD (power) "1.8 V Digital Supply.", 14 DVDD (power) "1.8 V DAC Decode Digital Supply. Keep isolated from the 1.8 V core digital supply.", 15 DVDD (power) "1.8 V DAC Decode Digital Supply. Keep isolated from the 1.8 V core digital supply.", 17 VSS (power) "Analog Ground. Connect to ground.", 20 VSS (power) "Analog Ground. Connect to ground.", 21 AVDD3 (power) "3.3 V Analog (DAC) Power Supply.", 22 AVDD3 (power) "3.3 V Analog (DAC) Power Supply.", 23 AVDD (power) "1.8 V Analog (DAC) Power Supply.", 24 AVDD (power) "1.8 V Analog (DAC) Power Supply.", 25 VSS (power) "Analog Ground. Connect to ground.", 28 VSS (power) "Analog Ground. Connect to ground.", 29 AVDD (power) "1.8 V Analog (Input Receiver) Power Supply.", 31 AVDD3 (power) "Analog Supply for Output Driver. These pins are normally 3.3 V but can be 1.8 V. Pin 31 powers Out0x. Pin 37 powers OUT1x. Pin 38 powers OUT2x. Pin 44 powers OUT3x. Apply power to these pins even if the corresponding outputs (See Datasheet)", 34 AVDD (power) "1.8 V Analog (Output Divider) Power Supply.", 37 AVDD3 (power) "Analog Supply for Output Driver. These pins are normally 3.3 V but can be 1.8 V. Pin 31 powers Out0x. Pin 37 powers OUT1x. Pin 38 powers OUT2x. Pin 44 powers OUT3x. Apply power to these pins even if the corresponding outputs (See Datasheet)", 38 AVDD3 (power) "Analog Supply for Output Driver. These pins are normally 3.3 V but can be 1.8 V. Pin 31 powers Out0x. Pin 37 powers OUT1x. Pin 38 powers OUT2x. Pin 44 powers OUT3x. Apply power to these pins even if the corresponding outputs (See Datasheet)", 41 AVDD (power) "1.8 V Analog (Output Divider) Power Supply.", 44 AVDD3 (power) "Analog Supply for Output Driver. These pins are normally 3.3 V but can be 1.8 V. Pin 31 powers Out0x. Pin 37 powers OUT1x. Pin 38 powers OUT2x. Pin 44 powers OUT3x. Apply power to these pins even if the corresponding outputs (See Datasheet)", 47 AVDD3 (power) "3.3 V Analog (System Clock) Power Supply.", 50 AVDD (power) "1.8 V Analog (System Clock) Power Supply.", 51 VSS (power) "Analog Ground. Connect to ground.", 54 VSS (power) "Analog Ground. Connect to ground.", 55 AVDD (power) "1.8 V Analog (System Clock) Power Supply.", 59 AVDD (power) "1.8 V Analog Power Supply.", 60 AVDD3 (power) "3.3 V Analog (Reference Input) Power Supply.", 63 AVDD (power) "1.8 V Analog (Reference Input) Power Supply.", 66 AVDD3 (power) "3.3 V Analog (Reference Input) Power Supply.", 67 AVDD3 (power) "3.3 V Analog (Reference Input) Power Supply.", 70 AVDD (power) "1.8 V Analog (Reference Input) Power Supply.", 73 AVDD3 (power) "3.3 V Analog (Reference Input) Power Supply.", 74 AVDD (power) "1.8 V Analog (Reference Input) Power Supply.", 77 DVDD (power) "1.8 V Digital Supply.", 82 DVDD3 (power) "3.3 V I/O Digital Supply.", 83 DVDD (power) "1.8 V Digital Supply.", 88 DVDD (power) "1.8 V Digital Supply.", 89 EP (power) "The exposed pad must be connected to ground (VSS)."